# EAGLE library part UPG2250 (library GW-devices)
External PA
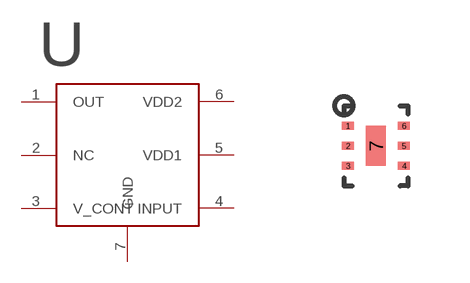
[diagram p27: symbol with the pads of TSON; footprint TSON]

Designator prefix -

## UPG2250T5N  [TSON]
1  OUT
2  NC
3  V_CONT
4  INPUT
5  VDD1
6  VDD2
7  GND

## Footprint TSON (pad centres in mm)
smd 0.3 x 0.2: 1 -0.7,0.5; 2 -0.7,0; 3 -0.7,-0.5; 4 0.7,-0.5; 5 0.7,0; 6 0.7,0.5
smd 0.5 x 1: 7 0,0